# Altium footprint library 16-TSSOP.PcbLib: 1 footprints
Each footprint in its own frame and in the unit in brackets; x right, y up, seen from the top. Pads: shape width x height; smd on the part's side, far side on the other; paste and mask are expansions set on the pad; w line width, h text height; cw(c..) or ccw(c..) is an arc to the next point about the centre after c.
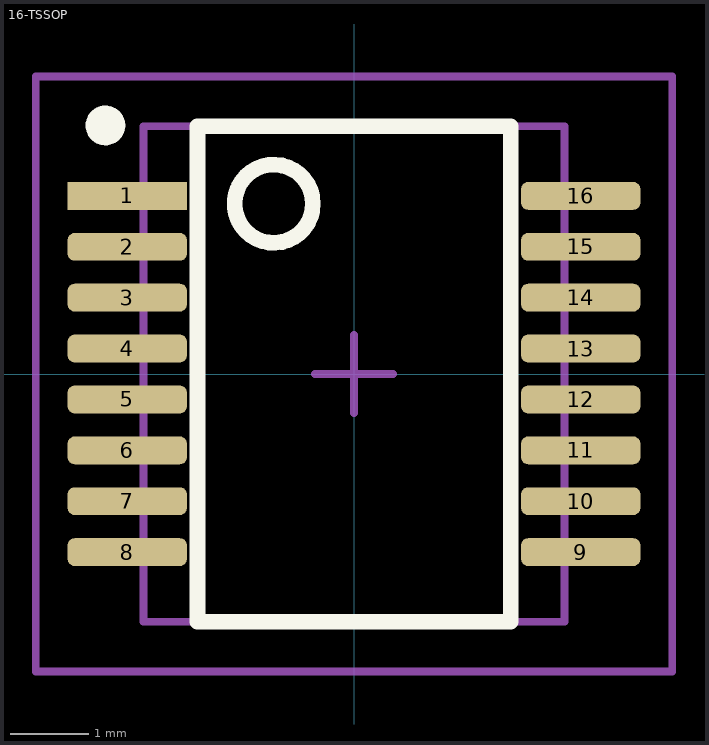
[diagram p0: the footprint, top view; thin cyan lines are the x and y axes]

## 16-TSSOP [mil]
height 78.35
pads (16):
  rect 60x14 smd mask+2: 1(-114,89.57)
  rrect50% 60x14 smd mask+2: 2(-114,63.98) 3(-114,38.39) 4(-114,12.8) 5(-114,-12.79) 6(-114,-38.38) 7(-114,-63.97) 8(-114,-89.56) 9(114,-89.56) 10(114,-63.97) 11(114,-38.38) 12(114,-12.79) 13(114,12.8) 14(114,38.39) 15(114,63.98) 16(114,89.57)
Top Overlay:
  circle w10: c-125,125 r5
  circle w7.87: c-40.35,85.63 r19.68
  lines w7.87: -78.74,-124.6 78.74,-124.6 78.74,124.61 -78.74,124.61 -78.74,-124.6
Mechanical 13:
  lines w3.94: -105.9,-124.6 -105.9,124.61 105.91,124.61 105.91,-124.6 -105.9,-124.6
Mechanical 15:
  lines w3.94: -19.68,0 19.69,0 ; 0,-19.68 0,19.69 ; -160,-149.6 160,-149.6 160,149.61 -160,149.61 -160,-149.6
3D body: height 78.35, standoff 0, extent -105.9,-124.6 105.91,124.61